# Altium schematic symbol library RFSwitch.SchLib: 1 symbol
Pins are listed as number, name and electrical type; pins without a type are passive.

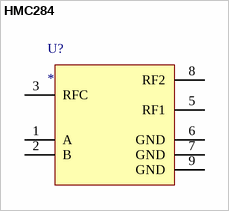
[diagram p0: symbol HMC284]

## HMC284
designator U?
SPDT Non-Reflective Switch DC - 3.5 GHz
footprint RFSW_TSOP65P490X110_HS-9N (TSOP, 8-Leads, Body 3.00x3.00mm, Pitch 0.65mm, Thermal Pad 2.41x1.78mm, IPC Medium Density)
pins: 1 A, 2 B, 3 RFC, 5 RF1, 6 GND, 7 GND, 8 RF2, 9 GND